# EAGLE library part MCP43X2 (library microchip-mcp43x2)
Quad Rheostat
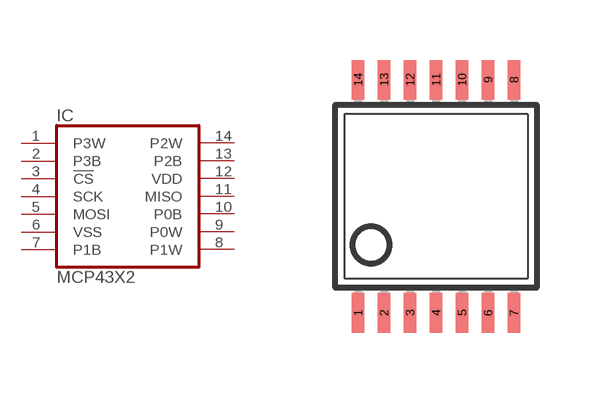
[diagram p0: symbol with the pads of TSSOP14; footprint TSSOP14]

Designator prefix IC

## MCP43X2ST  [TSSOP14]
1  P3W  pas
2  P3B
3  !CS  in
4  SCK  in
5  MOSI  in
6  VSS  pwr
7  P1B  pas
8  P1W  pas
9  P0W  pas
10  P0B  pas
11  MISO  out
12  VDD  pwr
13  P2B  pas
14  P2W  pas

## Footprint TSSOP14 (pad centres in mm)
Thin Shrink Small Outline Plastic 14 MAX3223-MAX3243.pdf
smd 0.305 x 0.991: 1 -1.95,-2.918; 2 -1.3,-2.918; 3 -0.65,-2.918; 4 0,-2.918; 5 0.65,-2.918; 6 1.3,-2.918; 7 1.95,-2.918; 8 1.95,2.918; 9 1.3,2.918; 10 0.65,2.918; 11 0,2.918; 12 -0.65,2.918; 13 -1.3,2.918; 14 -1.95,2.918